# EAGLE library part TSW-106-08-T-S-RA (library rcbussbc)
CONN HEADER 6 POS .100" Source: Datasheet <http://suddendocs.samtec.com/catalog_english/tsw_th.pdf>
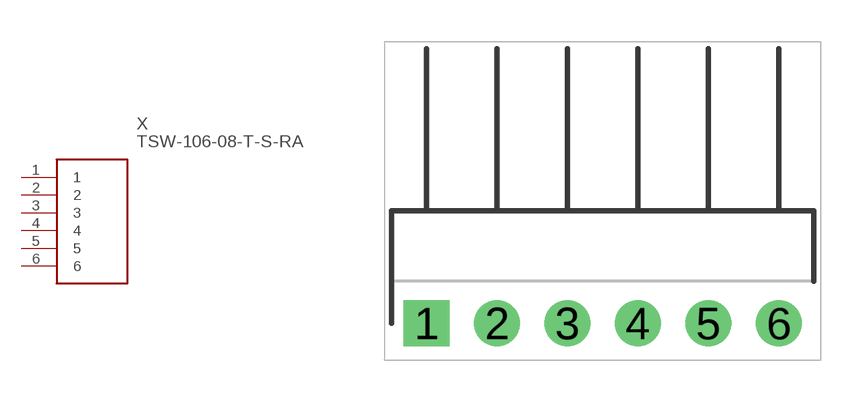
[diagram p13: symbol with the pads of HDRRA6W64P254_1X6_1524X254X309; footprint HDRRA6W64P254_1X6_1524X254X309]

Designator prefix X

## TSW-106-08-T-S-RA (ARROW_PART_NUMBER: TSW-106-08-T-S-RA; ARROW_PRICE-STOCK: https://www.arrow.com/en/products/tsw-106-08-t-s-ra/samtec?region=europe; DESCRIPTION: CONN HEADER 6 POS .100"; HEIGHT: 3.09mm; MANUFACTURER_NAME: SAMTEC; MANUFACTURER_PART_NUMBER: TSW-106-08-T-S-RA; MOUSER_PART_NUMBER: 200-TSW10608TSRA; MOUSER_PRICE-STOCK: https://www.mouser.co.uk/ProductDetail/Samtec/TSW-106-08-T-S-RA/?qs=rU5fayqh%252BE0Vyh43EO9b6w%3D%3D)  [HDRRA6W64P254_1X6_1524X254X309]
1  1
2  2
3  3
4  4
5  5
6  6

## Footprint HDRRA6W64P254_1X6_1524X254X309 (pad centres in mm)
TSW-106-08-T-S-RA
drill 1.1 pad 1.65 square: 1 0,0
drill 1.1 pad 1.65: 2 2.54,0; 3 5.08,0; 4 7.62,0; 5 10.16,0; 6 12.7,0